# EAGLE library part CAS-220TA (library OAlib)
Dip Switch SPDTSurface Mount Slide Switch Source: Datasheet <http://www.nidec-copal-electronics.com/e/catalog/switch/cas.pdf>
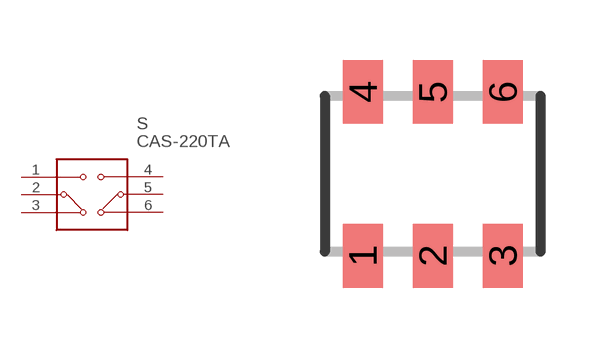
[diagram p5: symbol with the pads of CAS-220A1; footprint CAS-220A1]

Designator prefix S

## CAS-220TA (ARROW_PART_NUMBER: CAS-220TA; DESCRIPTION: Dip Switch SPDTSurface Mount Slide Switch; HEIGHT: mm; MANUFACTURER_NAME: Copal Electronics; MANUFACTURER_PART_NUMBER: CAS-220TA)  [CAS-220A1]
1  1
2  2
3  3
4  4
5  5
6  6

## Footprint CAS-220A1 (pad centres in mm)
CAS-220A1
smd 1 x 1.6: 1 -1.75,-2.05; 2 0,-2.05; 3 1.75,-2.05; 4 -1.75,2.05; 5 0,2.05; 6 1.75,2.05